# EAGLE library part RPI_HEADER (library piweather)
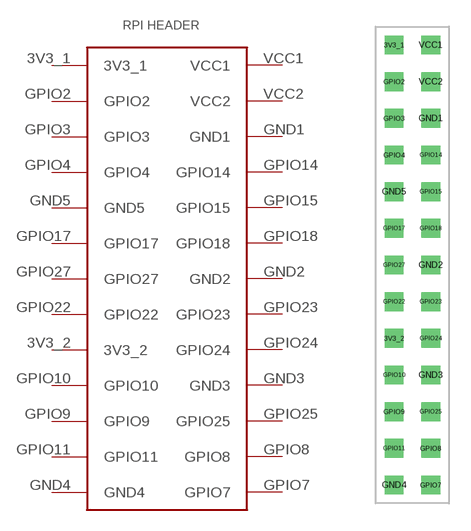
[diagram p5: symbol with the pads of RPI_HEADER; footprint RPI_HEADER]

Designator prefix -

## RPI_HEADER  [RPI_HEADER]
3V3_1  3V3_1
3V3_2  3V3_2
GND1  GND1
GND2  GND2
GND3  GND3
GND4  GND4
GND5  GND5
GPIO2  GPIO2
GPIO3  GPIO3
GPIO4  GPIO4
GPIO7  GPIO7
GPIO8  GPIO8
GPIO9  GPIO9
GPIO10  GPIO10
GPIO11  GPIO11
GPIO14  GPIO14
GPIO15  GPIO15
GPIO17  GPIO17
GPIO18  GPIO18
GPIO22  GPIO22
GPIO23  GPIO23
GPIO24  GPIO24
GPIO25  GPIO25
GPIO27  GPIO27
VCC1  VCC1
VCC2  VCC2

## Footprint RPI_HEADER (pad centres in mm)
drill 0.8 square: 3V3_1 -1.27,15.24; 3V3_2 -1.27,-5.08; GND1 1.27,10.16; GND2 1.27,0; GND3 1.27,-7.62; GND4 -1.27,-15.24; GND5 -1.27,5.08; GPIO2 -1.27,12.7; GPIO3 -1.27,10.16; GPIO4 -1.27,7.62; GPIO7 1.27,-15.24; GPIO8 1.27,-12.7; GPIO9 -1.27,-10.16; GPIO10 -1.27,-7.62; GPIO11 -1.27,-12.7; GPIO14 1.27,7.62; GPIO15 1.27,5.08; GPIO17 -1.27,2.54; GPIO18 1.27,2.54; GPIO22 -1.27,-2.54; GPIO23 1.27,-2.54; GPIO24 1.27,-5.08; GPIO25 1.27,-10.16; GPIO27 -1.27,0; VCC1 1.27,15.24; VCC2 1.27,12.7